# EAGLE library part NEUTX_1D (library ck)
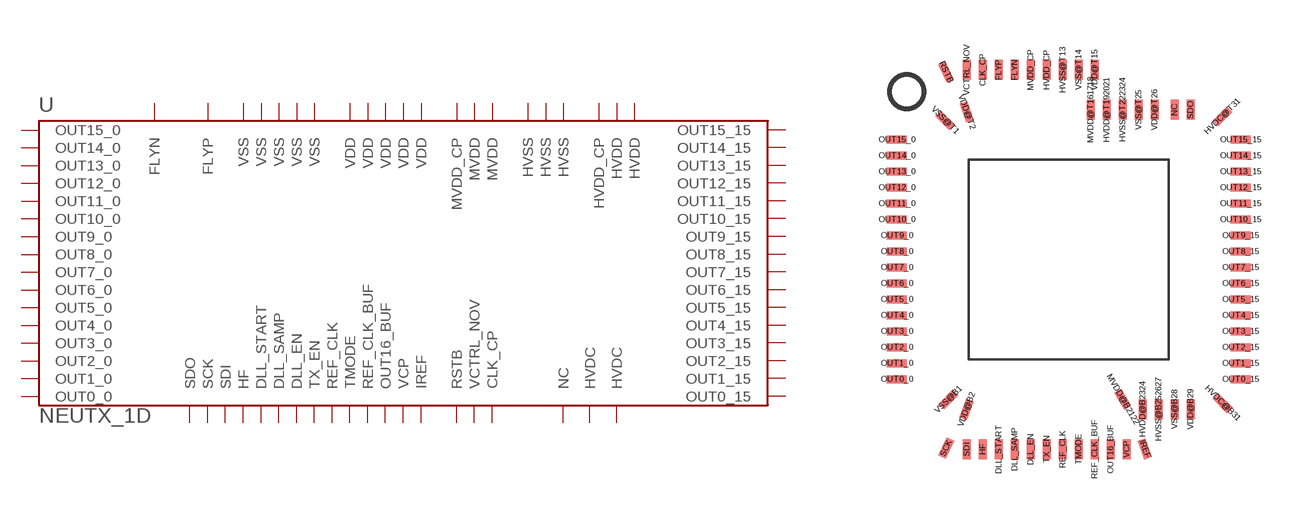
[diagram p28: symbol with the pads of NEUTX_COB2; footprint NEUTX_COB2]

Designator prefix U

## NEUTX_1D  [NEUTX_COB2]
CLK_CP  CLK_CP
DLL_EN  DLL_EN
DLL_SAMP  DLL_SAMP
DLL_START  DLL_START
FLYN  FLYN
FLYP  FLYP
HF  HF
HVDC@B31  HVDC
HVDC@T31  HVDC
HVDD@B2324  HVDD
HVDD@T192021  HVDD
HVDD_CP  HVDD_CP
HVSS@B252627  HVSS
HVSS@T13  HVSS
HVSS@T222324  HVSS
IREF  IREF
MVDD@B2122  MVDD
MVDD@T161718  MVDD
MVDD_CP  MVDD_CP
NC  NC
OUT0_0  OUT0_0
OUT0_15  OUT0_15
OUT1_0  OUT1_0
OUT1_15  OUT1_15
OUT2_0  OUT2_0
OUT2_15  OUT2_15
OUT3_0  OUT3_0
OUT3_15  OUT3_15
OUT4_0  OUT4_0
OUT4_15  OUT4_15
OUT5_0  OUT5_0
OUT5_15  OUT5_15
OUT6_0  OUT6_0
OUT6_15  OUT6_15
OUT7_0  OUT7_0
OUT7_15  OUT7_15
OUT8_0  OUT8_0
OUT8_15  OUT8_15
OUT9_0  OUT9_0
OUT9_15  OUT9_15
OUT10_0  OUT10_0
OUT10_15  OUT10_15
OUT11_0  OUT11_0
OUT11_15  OUT11_15
OUT12_0  OUT12_0
OUT12_15  OUT12_15
OUT13_0  OUT13_0
OUT13_15  OUT13_15
OUT14_0  OUT14_0
OUT14_15  OUT14_15
OUT15_0  OUT15_0
OUT15_15  OUT15_15
OUT16_BUF  OUT16_BUF
REF_CLK  REF_CLK
REF_CLK_BUF  REF_CLK_BUF
RSTB  RSTB
SCK  SCK
SDI  SDI
SDO  SDO
TMODE  TMODE
TX_EN  TX_EN
VCP  VCP
VCTRL_NOV  VCTRL_NOV
VDD@B2  VDD
VDD@B29  VDD
VDD@T2  VDD
VDD@T15  VDD
VDD@T26  VDD
VSS@B1  VSS
VSS@B28  VSS
VSS@T1  VSS
VSS@T14  VSS
VSS@T25  VSS

## Footprint NEUTX_COB2 (pad centres in mm)
smd 0.2 x 0.5: CLK_CP -2.15,4.75; DLL_EN -0.95,-4.75; DLL_SAMP -1.35,-4.75; DLL_START -1.75,-4.75; FLYN -1.35,4.75; FLYP -1.75,4.75; HF -2.15,-4.75; HVDD@B2324 1.85,-3.75; HVDD@T192021 0.95,3.75; HVDD_CP -0.55,4.75; HVSS@B252627 2.25,-3.75; HVSS@T13 -0.15,4.75; HVSS@T222324 1.35,3.75; MVDD@T161718 0.55,3.75; MVDD_CP -0.95,4.75; NC 2.65,3.75; OUT16_BUF 1.05,-4.75; REF_CLK -0.15,-4.75; REF_CLK_BUF 0.65,-4.75; SDI -2.55,-4.75; SDO 3.05,3.75; TMODE 0.25,-4.75; TX_EN -0.55,-4.75; VCP 1.45,-4.75; VCTRL_NOV -2.55,4.75; VDD@B29 3.05,-3.75; VDD@T15 0.65,4.75; VDD@T26 2.15,3.75; VSS@B28 2.65,-3.75; VSS@T14 0.25,4.75; VSS@T25 1.75,3.75
smd 0.5 x 0.2 rotated 135: HVDC@B31 3.85,-3.6; VSS@T1 -3.095,3.488
smd 0.5 x 0.2 rotated 45: HVDC@T31 3.844,3.586; VSS@B1 -3.012,-3.505
smd 0.5 x 0.2 rotated 110: IREF 1.901,-4.741; VDD@T2 -2.554,3.698
smd 0.5 x 0.2 rotated 120: MVDD@B2122 1.35,-3.5
smd 0.5 x 0.2: OUT0_0 -4.3,-3; OUT0_15 4.3,-3; OUT1_0 -4.3,-2.6; OUT1_15 4.3,-2.6; OUT2_0 -4.3,-2.2; OUT2_15 4.3,-2.2; OUT3_0 -4.3,-1.8; OUT3_15 4.3,-1.8; OUT4_0 -4.3,-1.4; OUT4_15 4.3,-1.4; OUT5_0 -4.3,-1; OUT5_15 4.3,-1; OUT6_0 -4.3,-0.6; OUT6_15 4.3,-0.6; OUT7_0 -4.3,-0.2; OUT7_15 4.3,-0.2; OUT8_0 -4.3,0.2; OUT8_15 4.3,0.2; OUT9_0 -4.3,0.6; OUT9_15 4.3,0.6; OUT10_0 -4.3,1; OUT10_15 4.3,1; OUT11_0 -4.3,1.4; OUT11_15 4.3,1.4; OUT12_0 -4.3,1.8; OUT12_15 4.3,1.8; OUT13_0 -4.3,2.2; OUT13_15 4.3,2.2; OUT14_0 -4.3,2.6; OUT14_15 4.3,2.6; OUT15_0 -4.3,3; OUT15_15 4.3,3
smd 0.5 x 0.2 rotated 115: RSTB -3.071,4.693
smd 0.5 x 0.2 rotated 245: SCK -3.066,-4.724
smd 0.5 x 0.2 rotated 250: VDD@B2 -2.557,-3.755